# Altium schematic symbol library FID.SchLib: 1 symbol
Pins are listed as number, name and electrical type; pins without a type are passive.

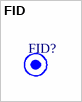
[diagram p0: symbol FID]

## FID
designator FID?  (value not drawn)